# Altium footprint library 标准芯片封装.PcbLib: 1 footprints
Each footprint in its own frame and in the unit in brackets; x right, y up, seen from the top. Pads: shape width x height; smd on the part's side, far side on the other; paste and mask are expansions set on the pad; w line width, h text height; cw(c..) or ccw(c..) is an arc to the next point about the centre after c.
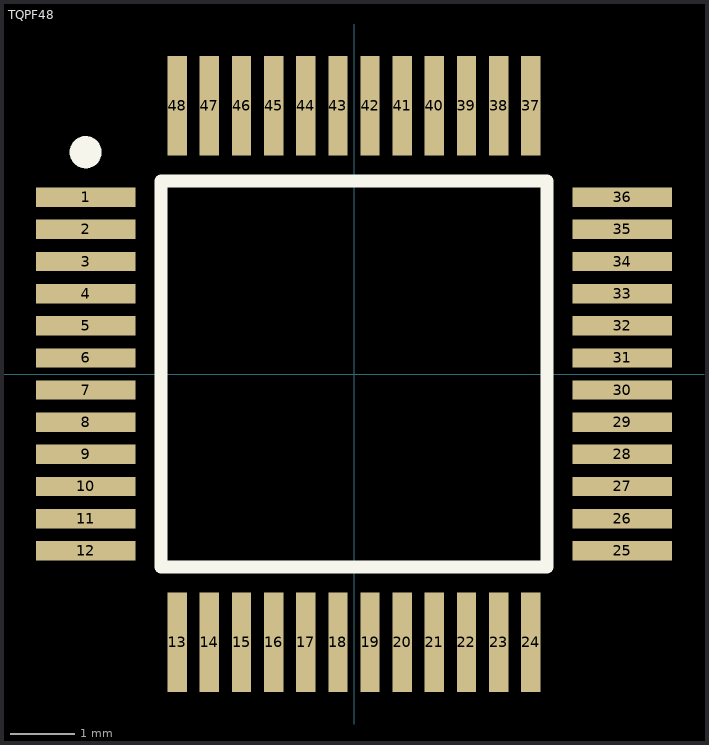
[diagram p0: the footprint, top view; thin cyan lines are the x and y axes]

## TQPF48 [mm] "F-QFP7x7-G48/N"
pads (48):
  rect 1.55x0.3 smd: 1(-4.177,2.756) 2(-4.177,2.256) 3(-4.177,1.756) 4(-4.177,1.256) 5(-4.177,0.756) 6(-4.177,0.256) 7(-4.177,-0.244) 8(-4.177,-0.744) 9(-4.177,-1.244) 10(-4.177,-1.744) 11(-4.177,-2.244) 12(-4.177,-2.744) 25(4.173,-2.744) 26(4.173,-2.244) 27(4.173,-1.744) 28(4.173,-1.244) 29(4.173,-0.744) 30(4.173,-0.244) 31(4.173,0.256) 32(4.173,0.756) 33(4.173,1.256) 34(4.173,1.756) 35(4.173,2.256) 36(4.173,2.756)
  rect 0.3x1.55 smd: 13(-2.752,-4.169) 14(-2.252,-4.169) 15(-1.752,-4.169) 16(-1.252,-4.169) 17(-0.752,-4.169) 18(-0.252,-4.169) 19(0.248,-4.169) 20(0.748,-4.169) 21(1.248,-4.169) 22(1.748,-4.169) 23(2.248,-4.169) 24(2.748,-4.169) 37(2.748,4.181) 38(2.248,4.181) 39(1.748,4.181) 40(1.248,4.181) 41(0.748,4.181) 42(0.248,4.181) 43(-0.252,4.181) 44(-0.752,4.181) 45(-1.252,4.181) 46(-1.752,4.181) 47(-2.252,4.181) 48(-2.752,4.181)
Top Overlay:
  circle w0.25: c-4.177,3.456 r0.125
  lines w0.2: -3.002,-2.994 -3.002,3.006 2.998,3.006 2.998,-2.994 -3.002,-2.994